# Altium schematic symbol library BME280.SchLib: 1 symbol
Pins are listed as number, name and electrical type; pins without a type are passive.

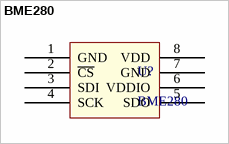
[diagram p0: symbol BME280]

## BME280
designator U?
Board Mount Humidity Sensors; Supplier 1: Mouser; Supplier Part Number 1: 262-BME280
footprint BME280
pins: 1 GND, 2 ~{CS}, 3 SDI, 4 SCK, 5 SDO, 6 VDDIO, 7 GND, 8 VDD